# Altium schematic symbol library Linear_stab.SchLib: 6 symbols
Pins are listed as number, name and electrical type; pins without a type are passive.

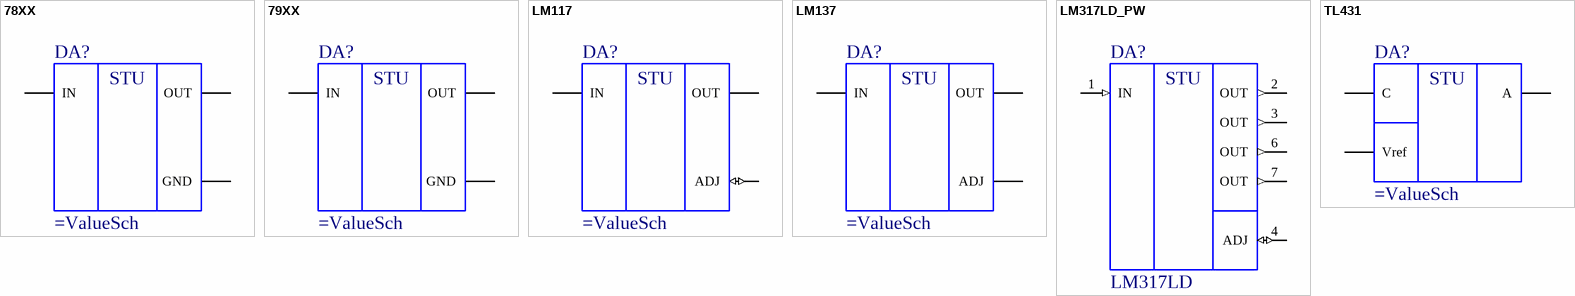
[diagram p0: symbols 78XX to TL431]

## 78XX
designator DA?
3 lead stabilisator 78XX
pins: GND (power), IN, OUT (power)
text: STU

## 79XX
designator DA?
3 lead stabilisator 79XX
pins: GND (power), IN, OUT (power)
1 alternate drawing of the same symbol
text: STU

## LM117
designator DA?
3 lead stabilisator LM117
pins: ADJ (io), IN, OUT (power)
text: STU

## LM137
designator DA?
3 lead stabilisator LM137
pins: ADJ (power), IN, OUT (power)
1 alternate drawing of the same symbol
text: STU

## LM317LD_PW
designator DA?, comment LM317LD
3 lead stabilisator LM317 SOIC-8 or PW; ValueSch: LM317LD
pins: 1 IN (in), 2 OUT (out), 3 OUT (out), 4 ADJ (io), 5 NC hidden, 6 OUT (out), 7 OUT (out), 8 NC hidden
text: STU

## TL431
designator DA?
Reference voltage source TL431
pins: A, C, Vref
text: STU